# Altium footprint library LED_Chaser.PcbLib: 7 footprints
Each footprint in its own frame and in the unit in brackets; x right, y up, seen from the top. Pads: shape width x height; smd on the part's side, far side on the other; paste and mask are expansions set on the pad; w line width, h text height; cw(c..) or ccw(c..) is an arc to the next point about the centre after c.
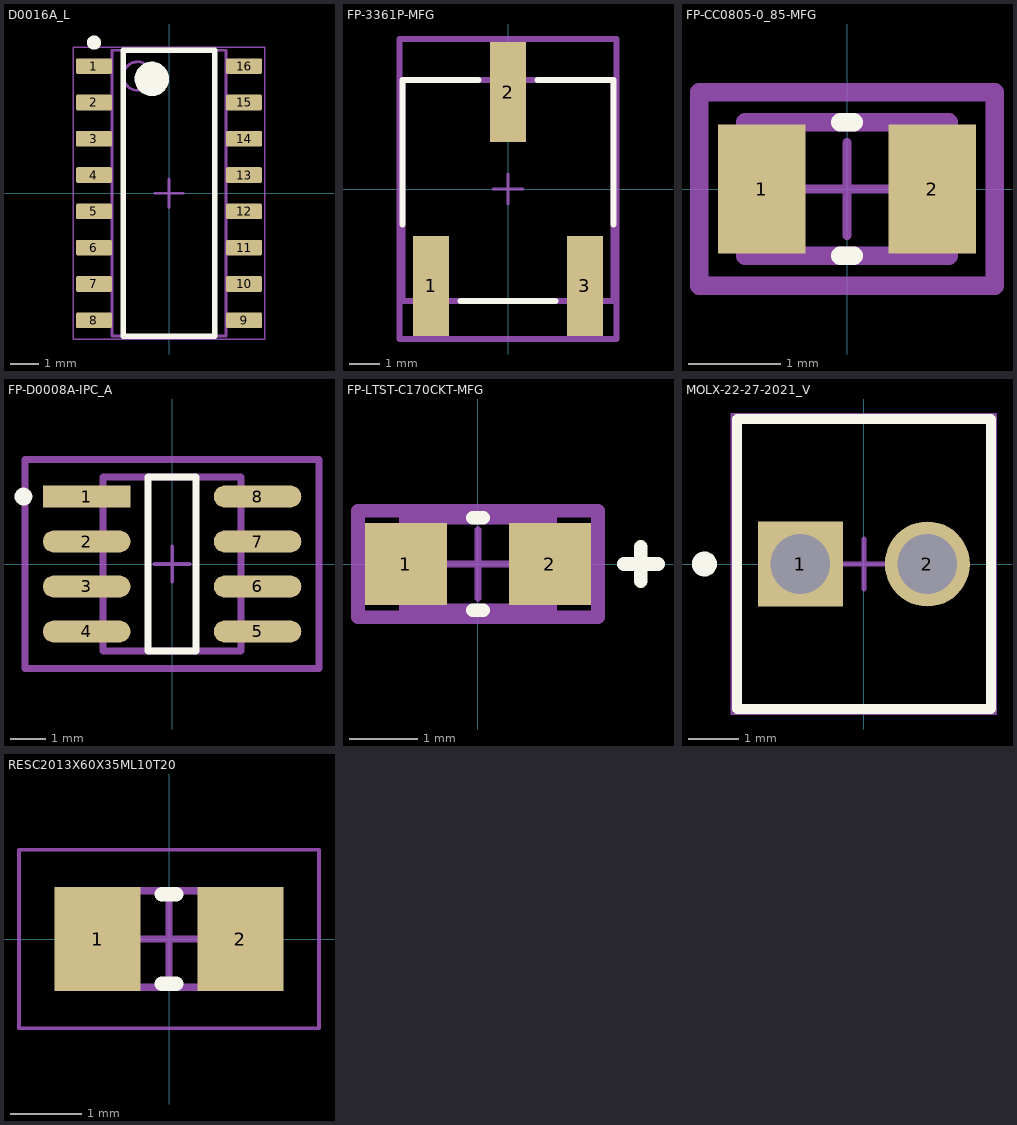
[diagram p0: the footprints below, top view; thin cyan lines are the x and y axes]

## D0016A_L [mm]
pads (16):
  rrect18% 1.25x0.55 smd: 1(-2.625,4.445) 2(-2.625,3.175) 3(-2.625,1.905) 4(-2.625,0.635) 5(-2.625,-0.635) 6(-2.625,-1.905) 7(-2.625,-3.175) 8(-2.625,-4.445) 9(2.625,-4.445) 10(2.625,-3.175) 11(2.625,-1.905) 12(2.625,-0.635) 13(2.625,0.635) 14(2.625,1.905) 15(2.625,3.175) 16(2.625,4.445)
Top Overlay:
  circle w0.6: c-0.6,4 r0.3
  circle w0.25: c-2.625,5.27 r0.125
  lines w0.2: -1.6,-5 1.6,-5 1.6,5 -1.6,5 -1.6,-5
Mechanical 1:
  text ".Designator" at -1.531,-0.319 h0.8
Top 3D Body:
  circle w0.1: c-1.1,4.1 r0.5
  lines w0.1: -2,-5 2,-5 2,5 -2,5 -2,-5
Top Courtyard:
  lines w0.05: -3.35,-5.1 3.35,-5.1 3.35,5.1 -3.35,5.1 -3.35,-5.1
  lines w0.1: -0.5,0 0.5,0 ; 0,-0.5 0,0.5
3D body "SOIC-16akaD0016AakaM16A.stp": height 1.59, standoff -0.01, extent -2.997,-4.953 2.997,4.953

## FP-3361P-MFG [mm]
pads (3):
  rect 1.19x3.3 smd paste+0 mask+0: 1(-2.54,-3.2) 2(0,3.2) 3(2.54,-3.2)
Top Overlay:
  lines w0.2: -3.48,-1.175 -3.48,3.6 -0.97,3.6 ; -1.57,-3.69 1.57,-3.69 ; 0.97,3.6 3.48,3.6 3.48,-1.175
Top Assembly:
  lines w0.2: -3.58,-4.95 3.58,-4.95 3.58,4.95 -3.58,4.95 -3.58,-4.95
  text ".Designator" at 0,-0.001 h1
Top 3D Body:
  lines w0.2: -3.48,-3.69 3.48,-3.69 3.48,3.6 -3.48,3.6 -3.48,-3.69
Top Courtyard:
  lines w0.2: -3.58,-4.95 3.58,-4.95 3.58,4.95 -3.58,4.95 -3.58,-4.95
Top Component Center:
  lines w0.1: -0.5,0 0.5,0 ; 0,-0.5 0,0.5
3D body "Res_Bourns_3361P-1-502GLF_eec.STEP": height 0.25, standoff 0, extent -3.58,-4.95 3.58,4.95

## FP-CC0805-0_85-MFG [mm]
pads (2):
  rect 0.95x1.4 smd paste+0 mask+0: 1(-0.925,0) 2(0.925,0)
Top Overlay:
  lines w0.2: -0.075,-0.725 0.075,-0.725 ; -0.075,0.725 0.075,0.725
Top Assembly:
  lines w0.2: -1.6,-1.05 1.6,-1.05 1.6,1.05 -1.6,1.05 -1.6,-1.05
  text ".Designator" at 0,0.188 h1
Top 3D Body:
  lines w0.2: -1.1,-0.725 1.1,-0.725 1.1,0.725 -1.1,0.725 -1.1,-0.725
Top Courtyard:
  lines w0.2: -1.6,-1.05 1.6,-1.05 1.6,1.05 -1.6,1.05 -1.6,-1.05
Top Component Center:
  lines w0.1: -0.5,0 0.5,0 ; 0,-0.5 0,0.5
3D body "Cap_Yageo_CC0805KKX7R7BB105_eec.STEP": height 0.25, standoff 0, extent -1.6,-1.05 1.6,1.05

## FP-D0008A-IPC_A [mm]
pads (8):
  rect 2.469x0.622 smd paste+0 mask+0: 1(-2.414,1.905)
  rrect100% 2.469x0.622 smd paste+0 mask+0: 2(-2.414,0.635) 3(-2.414,-0.635) 4(-2.414,-1.905) 5(2.414,-1.905) 6(2.414,-0.635) 7(2.414,0.635) 8(2.414,1.905)
Top Overlay:
  circle w0.25: c-4.198,1.905 r0.125
  lines w0.2: -0.679,-2.452 0.679,-2.452 0.679,2.452 -0.679,2.452 -0.679,-2.452
Top Assembly:
  lines w0.2: -4.148,-2.953 4.148,-2.953 4.148,2.953 -4.148,2.953 -4.148,-2.953
  text ".Designator" at 0,0.188 h1
Top 3D Body:
  lines w0.2: -1.947,-2.452 1.947,-2.452 1.947,2.452 -1.947,2.452 -1.947,-2.452
Top Courtyard:
  lines w0.2: -4.148,-2.953 4.148,-2.953 4.148,2.953 -4.148,2.953 -4.148,-2.953
Top Component Center:
  lines w0.1: -0.5,0 0.5,0 ; 0,-0.5 0,0.5
3D body "IC_Texas_Instruments_ISO7220ADR_eec.STEP": height 0.25, standoff 0, extent -4.148,-2.953 4.148,2.953

## FP-LTST-C170CKT-MFG [mm]
pads (2):
  rect 1.2x1.2 smd paste+0 mask+0: 1(-1.05,0) 2(1.05,0)
Top Overlay:
  lines w0.2: -0.075,-0.675 0.075,-0.675 ; -0.075,0.675 0.075,0.675 ; 2.125,0 2.625,0 ; 2.375,-0.25 2.375,0.25
Top Assembly:
  lines w0.2: -1.75,-0.775 1.75,-0.775 1.75,0.775 -1.75,0.775 -1.75,-0.775
  text ".Designator" at 0,-0.001 h1
Top 3D Body:
  lines w0.2: -1.05,-0.675 1.05,-0.675 1.05,0.675 -1.05,0.675 -1.05,-0.675
Top Courtyard:
  lines w0.2: -1.75,-0.775 1.75,-0.775 1.75,0.775 -1.75,0.775 -1.75,-0.775
Top Component Center:
  lines w0.1: -0.5,0 0.5,0 ; 0,-0.5 0,0.5
3D body "Diode_Lite-On_LTST-C170CKT_eec.STEP": height 0.25, standoff 0, extent -1.75,-0.775 1.75,0.775

## MOLX-22-27-2021_V [mm]
pads (2):
  rect 1.7x1.7 hole 1.19: 1(-1.27,0)
  round 1.7 hole 1.19: 2(1.27,0)
Top Overlay:
  circle w0.25: c-3.19,0 r0.125
  lines w0.2: -2.54,-2.9 -2.54,2.9 2.54,2.9 2.54,-2.9 -2.54,-2.9
Top 3D Body:
  lines w0.1: -2.54,-2.9 2.54,-2.9 2.54,2.9 -2.54,2.9 -2.54,-2.9
Top Courtyard:
  lines w0.05: -2.64,-3 -2.64,3 2.64,3 2.64,-3 -2.64,-3
  lines w0.1: -0.5,0 0.5,0 ; 0,-0.5 0,0.5
3D body "022272021.stp": height 11.72, standoff -3.54, extent -2.54,-2.9 2.54,2.9

## RESC2013X60X35ML10T20 [mm]
pads (2):
  rect 1.2x1.45 smd: 1(-1,0) 2(1,0)
Top Overlay:
  lines w0.2: -0.1,-0.625 0.1,-0.625 ; -0.1,0.625 0.1,0.625
Top 3D Body:
  lines w0.1: -1.05,-0.675 -1.05,0.675 1.05,0.675 1.05,-0.675 -1.05,-0.675
Top Courtyard:
  lines w0.05: -2.1,-1.25 -2.1,1.25 2.1,1.25 2.1,-1.25 -2.1,-1.25
  lines w0.1: -0.5,0 0.5,0 ; 0,-0.5 0,0.5
3D body "RESC2012X06N.step": height 0.6, standoff 0, extent -1.05,-0.675 1.05,0.675